# Altium footprint library HRS FPC-FFC FH12 Series.PcbLib: 48 footprints (part 3 of 3)
Each footprint in its own frame and in the unit in brackets; x right, y up, seen from the top. Pads: shape width x height; smd on the part's side, far side on the other; paste and mask are expansions set on the pad; w line width, h text height; cw(c..) or ccw(c..) is an arc to the next point about the centre after c.
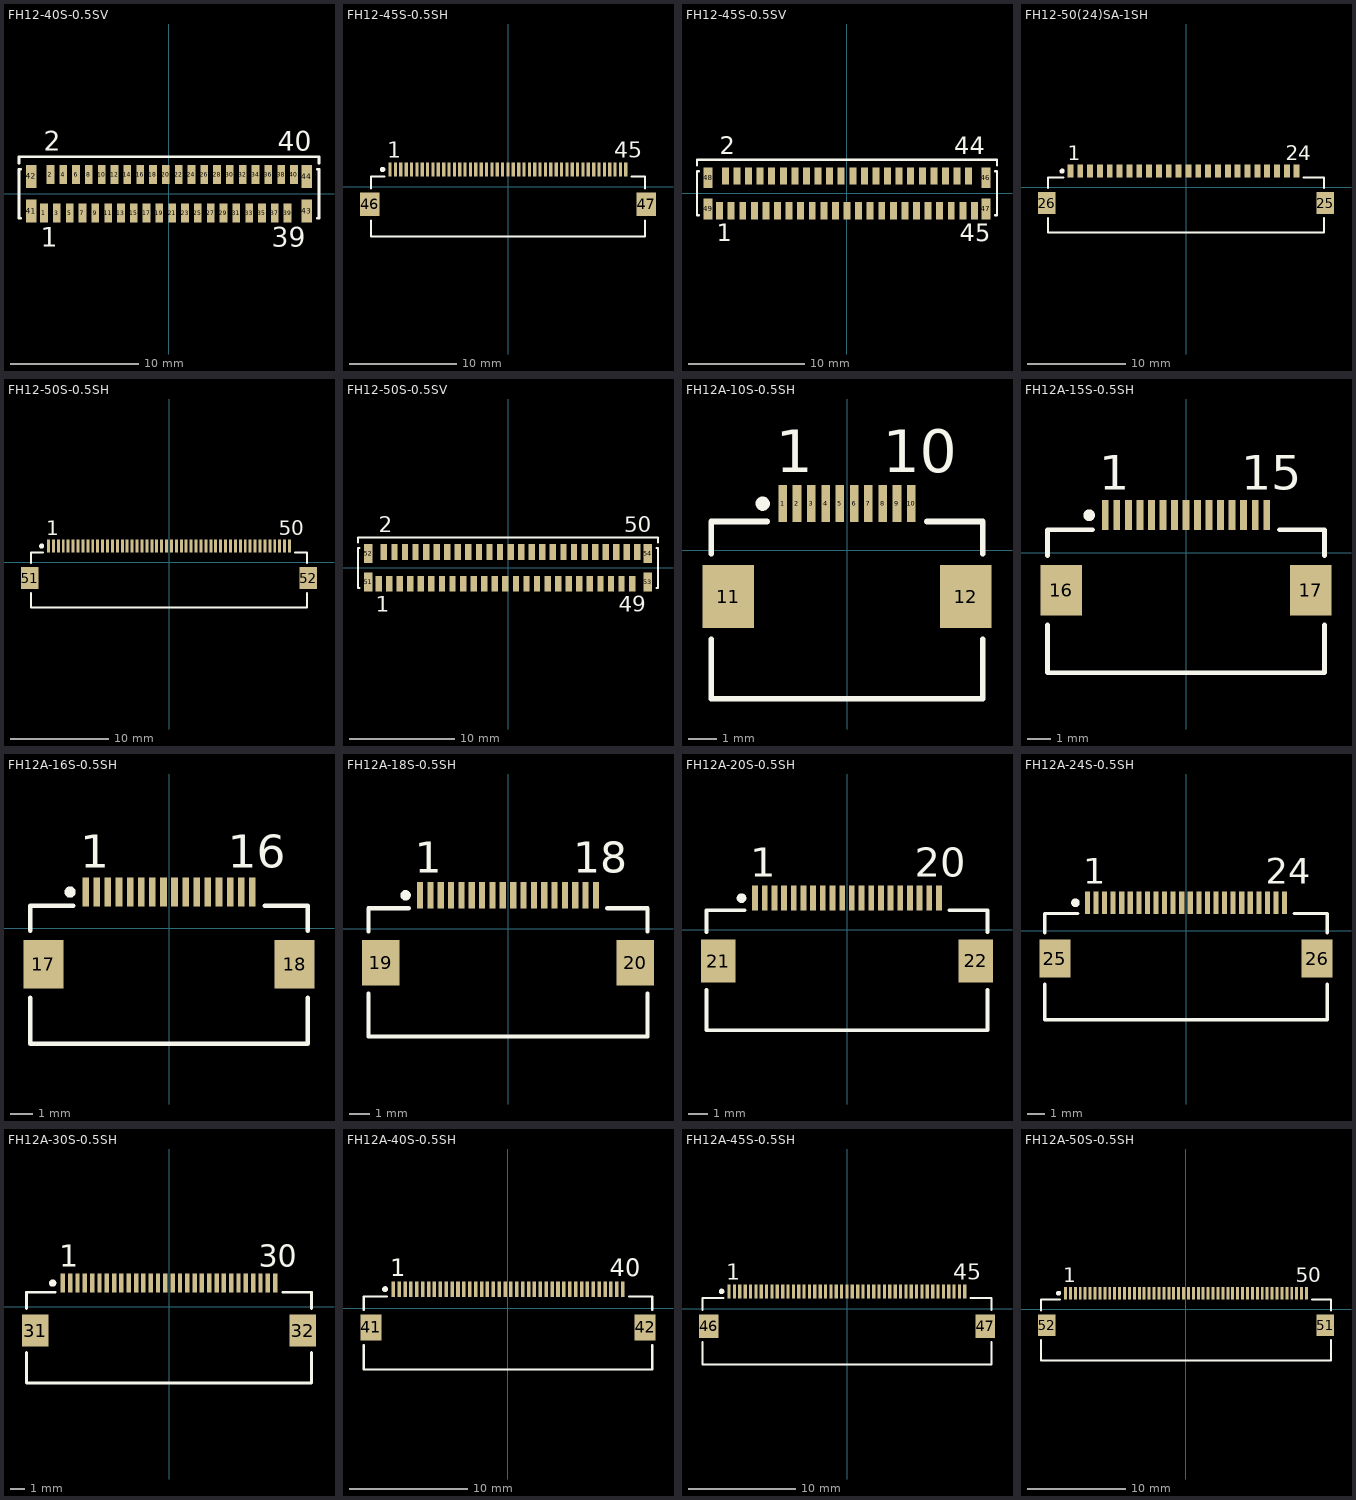
[diagram p2: the footprints below, top view; thin cyan lines are the x and y axes]

## FH12-40S-0.5SV [mm] "Connector; FH12 Series; 40 Position; 0.5mm Spaced Vertical Mounting"
height 4.85
pads (44):
  rect 0.6x1.5 smd: 1(-9.75,-1.5) 2(-9.25,1.5) 3(-8.75,-1.5) 4(-8.25,1.5) 5(-7.75,-1.5) 6(-7.25,1.5) 7(-6.75,-1.5) 8(-6.25,1.5) 9(-5.75,-1.5) 10(-5.25,1.5) 11(-4.75,-1.5) 12(-4.25,1.5) 13(-3.75,-1.5) 14(-3.25,1.5) 15(-2.75,-1.5) 16(-2.25,1.5) 17(-1.75,-1.5) 18(-1.25,1.5) 19(-0.75,-1.5) 20(-0.25,1.5) 21(0.25,-1.5) 22(0.75,1.5) 23(1.25,-1.5) 24(1.75,1.5) 25(2.25,-1.5) 26(2.75,1.5) 27(3.25,-1.5) 28(3.75,1.5) 29(4.25,-1.5) 30(4.75,1.5) 31(5.25,-1.5) 32(5.75,1.5) 33(6.25,-1.5) 34(6.75,1.5) 35(7.25,-1.5) 36(7.75,1.5) 37(8.25,-1.5) 38(8.75,1.5) 39(9.25,-1.5) 40(9.75,1.5)
  rect 0.8x1.8 smd: 41(-10.75,-1.35) 42(-10.75,1.35) 43(10.75,-1.35) 44(10.75,1.35)
Top Overlay:
  lines w0.2: -11.7,2.4 -11.7,2.9 11.7,2.9 11.7,2.4 ; -11.55,-1.9 -11.7,-1.9 -11.7,1.9 -11.55,1.9 ; 11.55,-1.9 11.7,-1.9 11.7,1.9 11.55,1.9
  text "39" at 8,-4.125 h1.5
  text "40" at 8.5,3.375 h1.5
  text "2" at -9.75,3.375 h1.5
  text "1" at -10,-4.125 h1.5

## FH12-45S-0.5SH [mm] "Connector; FH12 Series; 45 Position; 0.5mm Spaced Bottom Contact"
height 2
pads (47):
  rect 0.3x1.3 smd: 1(-11,1.625) 2(-10.5,1.625) 3(-10,1.625) 4(-9.5,1.625) 5(-9,1.625) 6(-8.5,1.625) 7(-8,1.625) 8(-7.5,1.625) 9(-7,1.625) 10(-6.5,1.625) 11(-6,1.625) 12(-5.5,1.625) 13(-5,1.625) 14(-4.5,1.625) 15(-4,1.625) 16(-3.5,1.625) 17(-3,1.625) 18(-2.5,1.625) 19(-2,1.625) 20(-1.5,1.625) 21(-1,1.625) 22(-0.5,1.625) 23(0,1.625) 24(0.5,1.625) 25(1,1.625) 26(1.5,1.625) 27(2,1.625) 28(2.5,1.625) 29(3,1.625) 30(3.5,1.625) 31(4,1.625) 32(4.5,1.625) 33(5,1.625) 34(5.5,1.625) 35(6,1.625) 36(6.5,1.625) 37(7,1.625) 38(7.5,1.625) 39(8,1.625) 40(8.5,1.625) 41(9,1.625) 42(9.5,1.625) 43(10,1.625) 44(10.5,1.625) 45(11,1.625)
  rect 1.8x2.2 smd: 46(-12.9,-1.625) 47(12.9,-1.625)
Top Overlay:
  circle w0.25: c-11.7,1.625 r0.125
  lines w0.2: -12.8,-3.125 -12.8,-4.625 12.8,-4.625 12.8,-3.125 ; -12.8,-0.125 -12.8,0.975 -11.55,0.975 ; 11.55,0.975 12.8,0.975 12.8,-0.125
  text "1" at -11.25,2.725 h1.5
  text "45" at 9.9,2.725 h1.5

## FH12-45S-0.5SV [mm] "Connector; FH12 Series; 45 Position; 0.5mm Spaced Vertical Mounting"
height 4.85
pads (49):
  rect 0.6x1.5 smd: 1(-11,-1.5) 2(-10.5,1.5) 3(-10,-1.5) 4(-9.5,1.5) 5(-9,-1.5) 6(-8.5,1.5) 7(-8,-1.5) 8(-7.5,1.5) 9(-7,-1.5) 10(-6.5,1.5) 11(-6,-1.5) 12(-5.5,1.5) 13(-5,-1.5) 14(-4.5,1.5) 15(-4,-1.5) 16(-3.5,1.5) 17(-3,-1.5) 18(-2.5,1.5) 19(-2,-1.5) 20(-1.5,1.5) 21(-1,-1.5) 22(-0.5,1.5) 23(0,-1.5) 24(0.5,1.5) 25(1,-1.5) 26(1.5,1.5) 27(2,-1.5) 28(2.5,1.5) 29(3,-1.5) 30(3.5,1.5) 31(4,-1.5) 32(4.5,1.5) 33(5,-1.5) 34(5.5,1.5) 35(6,-1.5) 36(6.5,1.5) 37(7,-1.5) 38(7.5,1.5) 39(8,-1.5) 40(8.5,1.5) 41(9,-1.5) 42(9.5,1.5) 43(10,-1.5) 44(10.5,1.5) 45(11,-1.5)
  rect 0.8x1.8 smd: 46(12,1.35) 47(12,-1.35) 48(-12,1.35) 49(-12,-1.35)
Top Overlay:
  lines w0.2: -12.95,2.4 -12.95,2.9 12.95,2.9 12.95,2.4 ; -12.8,-1.9 -12.95,-1.9 -12.95,1.9 -12.8,1.9 ; 12.8,-1.9 12.95,-1.9 12.95,1.9 12.8,1.9
  text "45" at 9.75,-4.125 h1.5
  text "44" at 9.25,3.375 h1.5
  text "1" at -11.25,-4.125 h1.5
  text "2" at -11,3.375 h1.5

## FH12-50(24)SA-1SH [mm] "Connector; FH12 Series; 24 Position; 1.0mm Spaced Bottom Eccentric Contact"
height 2
pads (26):
  rect 0.6x1.3 smd: 1(-11.75,1.625) 2(-10.75,1.625) 3(-9.75,1.625) 4(-8.75,1.625) 5(-7.75,1.625) 6(-6.75,1.625) 7(-5.75,1.625) 8(-4.75,1.625) 9(-3.75,1.625) 10(-2.75,1.625) 11(-1.75,1.625) 12(-0.75,1.625) 13(0.25,1.625) 14(1.25,1.625) 15(2.25,1.625) 16(3.25,1.625) 17(4.25,1.625) 18(5.25,1.625) 19(6.25,1.625) 20(7.25,1.625) 21(8.25,1.625) 22(9.25,1.625) 23(10.25,1.625) 24(11.25,1.625)
  rect 1.8x2.2 smd: 25(14.15,-1.625) 26(-14.15,-1.625)
Top Overlay:
  circle w0.25: c-12.6,1.625 r0.125
  lines w0.2: -14.05,-3.125 -14.05,-4.625 14.05,-4.625 14.05,-3.125 ; -14.05,-0.125 -14.05,0.975 -12.45,0.975 ; 11.95,0.975 14.05,0.975 14.05,-0.125
  text "1" at -12,2.725 h1.5
  text "24" at 10.15,2.725 h1.5

## FH12-50S-0.5SH [mm] "Connector; FH12 Series; 50 Position; 0.5mm Spaced Bottom Contact"
height 2
pads (52):
  rect 0.3x1.3 smd: 1(-12.25,1.625) 2(-11.75,1.625) 3(-11.25,1.625) 4(-10.75,1.625) 5(-10.25,1.625) 6(-9.75,1.625) 7(-9.25,1.625) 8(-8.75,1.625) 9(-8.25,1.625) 10(-7.75,1.625) 11(-7.25,1.625) 12(-6.75,1.625) 13(-6.25,1.625) 14(-5.75,1.625) 15(-5.25,1.625) 16(-4.75,1.625) 17(-4.25,1.625) 18(-3.75,1.625) 19(-3.25,1.625) 20(-2.75,1.625) 21(-2.25,1.625) 22(-1.75,1.625) 23(-1.25,1.625) 24(-0.75,1.625) 25(-0.25,1.625) 26(0.25,1.625) 27(0.75,1.625) 28(1.25,1.625) 29(1.75,1.625) 30(2.25,1.625) 31(2.75,1.625) 32(3.25,1.625) 33(3.75,1.625) 34(4.25,1.625) 35(4.75,1.625) 36(5.25,1.625) 37(5.75,1.625) 38(6.25,1.625) 39(6.75,1.625) 40(7.25,1.625) 41(7.75,1.625) 42(8.25,1.625) 43(8.75,1.625) 44(9.25,1.625) 45(9.75,1.625) 46(10.25,1.625) 47(10.75,1.625) 48(11.25,1.625) 49(11.75,1.625) 50(12.25,1.625)
  rect 1.8x2.2 smd: 51(-14.15,-1.625) 52(14.15,-1.625)
Top Overlay:
  circle w0.25: c-12.95,1.625 r0.125
  lines w0.2: -14.05,-3.125 -14.05,-4.625 14.05,-4.625 14.05,-3.125 ; -14.05,-0.125 -14.05,0.975 -12.8,0.975 ; 12.8,0.975 14.05,0.975 14.05,-0.125
  text "50" at 11.15,2.725 h1.5
  text "1" at -12.5,2.725 h1.5

## FH12-50S-0.5SV [mm] "Connector; FH12 Series; 50 Position; 0.5mm Spaced Vertical Mounting"
height 4.85
pads (54):
  rect 0.6x1.5 smd: 1(-12.25,-1.5) 2(-11.75,1.5) 3(-11.25,-1.5) 4(-10.75,1.5) 5(-10.25,-1.5) 6(-9.75,1.5) 7(-9.25,-1.5) 8(-8.75,1.5) 9(-8.25,-1.5) 10(-7.75,1.5) 11(-7.25,-1.5) 12(-6.75,1.5) 13(-6.25,-1.5) 14(-5.75,1.5) 15(-5.25,-1.5) 16(-4.75,1.5) 17(-4.25,-1.5) 18(-3.75,1.5) 19(-3.25,-1.5) 20(-2.75,1.5) 21(-2.25,-1.5) 22(-1.75,1.5) 23(-1.25,-1.5) 24(-0.75,1.5) 25(-0.25,-1.5) 26(0.25,1.5) 27(0.75,-1.5) 28(1.25,1.5) 29(1.75,-1.5) 30(2.25,1.5) 31(2.75,-1.5) 32(3.25,1.5) 33(3.75,-1.5) 34(4.25,1.5) 35(4.75,-1.5) 36(5.25,1.5) 37(5.75,-1.5) 38(6.25,1.5) 39(6.75,-1.5) 40(7.25,1.5) 41(7.75,-1.5) 42(8.25,1.5) 43(8.75,-1.5) 44(9.25,1.5) 45(9.75,-1.5) 46(10.25,1.5) 47(10.75,-1.5) 48(11.25,1.5) 49(11.75,-1.5) 50(12.25,1.5)
  rect 0.8x1.8 smd: 51(-13.25,-1.35) 52(-13.25,1.35) 53(13.25,-1.35) 54(13.25,1.35)
Top Overlay:
  lines w0.2: -14.2,2.4 -14.2,2.9 14.2,2.9 14.2,2.4 ; -14.05,-1.9 -14.2,-1.9 -14.2,1.9 -14.05,1.9 ; 14.05,-1.9 14.2,-1.9 14.2,1.9 14.05,1.9
  text "1" at -12.5,-4.125 h1.5
  text "2" at -12.25,3.375 h1.5
  text "49" at 10.5,-4.125 h1.5
  text "50" at 11,3.375 h1.5

## FH12A-10S-0.5SH [mm] "Connector; FH12 Series; 10 Position; 0.5mm Spaced Top Contact"
height 2
pads (12):
  rect 0.3x1.3 smd: 1(-2.25,1.625) 2(-1.75,1.625) 3(-1.25,1.625) 4(-0.75,1.625) 5(-0.25,1.625) 6(0.25,1.625) 7(0.75,1.625) 8(1.25,1.625) 9(1.75,1.625) 10(2.25,1.625)
  rect 1.8x2.2 smd: 11(-4.15,-1.625) 12(4.15,-1.625)
Top Overlay:
  circle w0.25: c-2.95,1.625 r0.125
  lines w0.2: -4.75,-3.125 -4.75,-5.2 4.75,-5.2 4.75,-3.125 ; -4.75,-0.125 -4.75,1 -2.8,1 ; 2.8,1 4.75,1 4.75,-0.125
  text "1" at -2.5,2.725 h1.5
  text "10" at 1.25,2.725 h1.5

## FH12A-15S-0.5SH [mm] "Connector; FH12 Series; 15 Position; 0.5mm Spaced Top Contact"
height 2
pads (17):
  rect 0.3x1.3 smd: 1(-3.5,1.625) 2(-3,1.625) 3(-2.5,1.625) 4(-2,1.625) 5(-1.5,1.625) 6(-1,1.625) 7(-0.5,1.625) 8(0,1.625) 9(0.5,1.625) 10(1,1.625) 11(1.5,1.625) 12(2,1.625) 13(2.5,1.625) 14(3,1.625) 15(3.5,1.625)
  rect 1.8x2.2 smd: 16(-5.4,-1.625) 17(5.4,-1.625)
Top Overlay:
  circle w0.25: c-4.2,1.625 r0.125
  lines w0.2: -6,-3.125 -6,-5.2 6,-5.2 6,-3.125 ; -6,-0.125 -6,1 -4.05,1 ; 4.05,1 6,1 6,-0.125
  text "1" at -3.75,2.725 h1.5
  text "15" at 2.4,2.725 h1.5

## FH12A-16S-0.5SH [mm] "Connector; FH12 Series; 16 Position; 0.5mm Spaced Top Contact"
height 2
pads (18):
  rect 0.3x1.3 smd: 1(-3.75,1.625) 2(-3.25,1.625) 3(-2.75,1.625) 4(-2.25,1.625) 5(-1.75,1.625) 6(-1.25,1.625) 7(-0.75,1.625) 8(-0.25,1.625) 9(0.25,1.625) 10(0.75,1.625) 11(1.25,1.625) 12(1.75,1.625) 13(2.25,1.625) 14(2.75,1.625) 15(3.25,1.625) 16(3.75,1.625)
  rect 1.8x2.2 smd: 17(-5.65,-1.625) 18(5.65,-1.625)
Top Overlay:
  circle w0.25: c-4.45,1.625 r0.125
  lines w0.2: -6.25,-3.125 -6.25,-5.2 6.25,-5.2 6.25,-3.125 ; -6.25,-0.125 -6.25,1 -4.3,1 ; 4.3,1 6.25,1 6.25,-0.125
  text "16" at 2.65,2.725 h1.5
  text "1" at -4,2.725 h1.5

## FH12A-18S-0.5SH [mm] "Connector; FH12 Series; 18 Position; 0.5mm Spaced Top Contact"
height 2
pads (20):
  rect 0.3x1.3 smd: 1(-4.25,1.625) 2(-3.75,1.625) 3(-3.25,1.625) 4(-2.75,1.625) 5(-2.25,1.625) 6(-1.75,1.625) 7(-1.25,1.625) 8(-0.75,1.625) 9(-0.25,1.625) 10(0.25,1.625) 11(0.75,1.625) 12(1.25,1.625) 13(1.75,1.625) 14(2.25,1.625) 15(2.75,1.625) 16(3.25,1.625) 17(3.75,1.625) 18(4.25,1.625)
  rect 1.8x2.2 smd: 19(-6.15,-1.625) 20(6.15,-1.625)
Top Overlay:
  circle w0.25: c-4.95,1.625 r0.125
  lines w0.2: -6.75,-3.125 -6.75,-5.2 6.75,-5.2 6.75,-3.125 ; -6.75,-0.125 -6.75,1 -4.8,1 ; 4.8,1 6.75,1 6.75,-0.125
  text "1" at -4.5,2.725 h1.5
  text "18" at 3.15,2.725 h1.5

## FH12A-20S-0.5SH [mm] "Connector; FH12 Series; 20 Position; 0.5mm Spaced Top Contact"
height 2
pads (22):
  rect 0.3x1.3 smd: 1(-4.75,1.625) 2(-4.25,1.625) 3(-3.75,1.625) 4(-3.25,1.625) 5(-2.75,1.625) 6(-2.25,1.625) 7(-1.75,1.625) 8(-1.25,1.625) 9(-0.75,1.625) 10(-0.25,1.625) 11(0.25,1.625) 12(0.75,1.625) 13(1.25,1.625) 14(1.75,1.625) 15(2.25,1.625) 16(2.75,1.625) 17(3.25,1.625) 18(3.75,1.625) 19(4.25,1.625) 20(4.75,1.625)
  rect 1.8x2.2 smd: 21(-6.65,-1.625) 22(6.65,-1.623)
Top Overlay:
  circle w0.25: c-5.45,1.625 r0.125
  lines w0.2: -7.25,-3.123 -7.25,-5.198 7.25,-5.198 7.25,-3.123 ; -7.25,-0.123 -7.25,1.002 -5.3,1.002 ; 5.3,1.002 7.25,1.002 7.25,-0.123
  text "20" at 3.5,2.725 h1.5
  text "1" at -5,2.725 h1.5

## FH12A-24S-0.5SH [mm] "Connector; FH12 Series; 24 Position; 0.5mm Spaced Top Contact"
height 2
pads (26):
  rect 0.3x1.3 smd: 1(-5.75,1.625) 2(-5.25,1.625) 3(-4.75,1.625) 4(-4.25,1.625) 5(-3.75,1.625) 6(-3.25,1.625) 7(-2.75,1.625) 8(-2.25,1.625) 9(-1.75,1.625) 10(-1.25,1.625) 11(-0.75,1.625) 12(-0.25,1.625) 13(0.25,1.625) 14(0.75,1.625) 15(1.25,1.625) 16(1.75,1.625) 17(2.25,1.625) 18(2.75,1.625) 19(3.25,1.625) 20(3.75,1.625) 21(4.25,1.625) 22(4.75,1.625) 23(5.25,1.625) 24(5.75,1.625)
  rect 1.8x2.2 smd: 25(-7.65,-1.625) 26(7.65,-1.625)
Top Overlay:
  circle w0.25: c-6.45,1.625 r0.125
  lines w0.2: -8.25,-3.125 -8.25,-5.2 8.25,-5.2 8.25,-3.125 ; -8.25,-0.125 -8.25,1 -6.3,1 ; 6.3,1 8.25,1 8.25,-0.125
  text "24" at 4.65,2.725 h1.5
  text "1" at -6,2.725 h1.5

## FH12A-30S-0.5SH [mm] "Connector; FH12 Series; 30 Position; 0.5mm Spaced Top Contact"
height 2
pads (32):
  rect 0.3x1.3 smd: 1(-7.25,1.625) 2(-6.75,1.625) 3(-6.25,1.625) 4(-5.75,1.625) 5(-5.25,1.625) 6(-4.75,1.625) 7(-4.25,1.625) 8(-3.75,1.625) 9(-3.25,1.625) 10(-2.75,1.625) 11(-2.25,1.625) 12(-1.75,1.625) 13(-1.25,1.625) 14(-0.75,1.625) 15(-0.25,1.625) 16(0.25,1.625) 17(0.75,1.625) 18(1.25,1.625) 19(1.75,1.625) 20(2.25,1.625) 21(2.75,1.625) 22(3.25,1.625) 23(3.75,1.625) 24(4.25,1.625) 25(4.75,1.625) 26(5.25,1.625) 27(5.75,1.625) 28(6.25,1.625) 29(6.75,1.625) 30(7.25,1.625)
  rect 1.8x2.2 smd: 31(-9.15,-1.625) 32(9.15,-1.625)
Top Overlay:
  circle w0.25: c-7.95,1.625 r0.125
  lines w0.2: -9.75,-3.125 -9.75,-5.2 9.75,-5.2 9.75,-3.125 ; -9.75,-0.125 -9.75,1 -7.8,1 ; 7.8,1 9.75,1 9.75,-0.125
  text "1" at -7.5,2.725 h1.5
  text "30" at 6.15,2.725 h1.5

## FH12A-40S-0.5SH [mm] "Connector; FH12 Series; 40 Position; 0.5mm Spaced Top Contact"
height 2
pads (42):
  rect 0.3x1.3 smd: 1(-9.75,1.625) 2(-9.25,1.625) 3(-8.75,1.625) 4(-8.25,1.625) 5(-7.75,1.625) 6(-7.25,1.625) 7(-6.75,1.625) 8(-6.25,1.625) 9(-5.75,1.625) 10(-5.25,1.625) 11(-4.75,1.625) 12(-4.25,1.625) 13(-3.75,1.625) 14(-3.25,1.625) 15(-2.75,1.625) 16(-2.25,1.625) 17(-1.75,1.625) 18(-1.25,1.625) 19(-0.75,1.625) 20(-0.25,1.625) 21(0.25,1.625) 22(0.75,1.625) 23(1.25,1.625) 24(1.75,1.625) 25(2.25,1.625) 26(2.75,1.625) 27(3.25,1.625) 28(3.75,1.625) 29(4.25,1.625) 30(4.75,1.625) 31(5.25,1.625) 32(5.75,1.625) 33(6.25,1.625) 34(6.75,1.625) 35(7.25,1.625) 36(7.75,1.625) 37(8.25,1.625) 38(8.75,1.625) 39(9.25,1.625) 40(9.75,1.625)
  rect 1.8x2.2 smd: 41(-11.65,-1.625) 42(11.65,-1.625)
Top Overlay:
  circle w0.25: c-10.45,1.625 r0.125
  lines w0.2: -12.25,-3.125 -12.25,-5.2 12.25,-5.2 12.25,-3.125 ; -12.25,-0.125 -12.25,1 -10.3,1 ; 10.3,1 12.25,1 12.25,-0.125
  text "40" at 8.65,2.725 h1.5
  text "1" at -10,2.725 h1.5

## FH12A-45S-0.5SH [mm] "Connector; FH12 Series; 45 Position; 0.5mm Spaced Top Contact"
height 2
pads (47):
  rect 0.3x1.3 smd: 1(-11,1.625) 2(-10.5,1.625) 3(-10,1.625) 4(-9.5,1.625) 5(-9,1.625) 6(-8.5,1.625) 7(-8,1.625) 8(-7.5,1.625) 9(-7,1.625) 10(-6.5,1.625) 11(-6,1.625) 12(-5.5,1.625) 13(-5,1.625) 14(-4.5,1.625) 15(-4,1.625) 16(-3.5,1.625) 17(-3,1.625) 18(-2.5,1.625) 19(-2,1.625) 20(-1.5,1.625) 21(-1,1.625) 22(-0.5,1.625) 23(0,1.625) 24(0.5,1.625) 25(1,1.625) 26(1.5,1.625) 27(2,1.625) 28(2.5,1.625) 29(3,1.625) 30(3.5,1.625) 31(4,1.625) 32(4.5,1.625) 33(5,1.625) 34(5.5,1.625) 35(6,1.625) 36(6.5,1.625) 37(7,1.625) 38(7.5,1.625) 39(8,1.625) 40(8.5,1.625) 41(9,1.625) 42(9.5,1.625) 43(10,1.625) 44(10.5,1.625) 45(11,1.625)
  rect 1.8x2.2 smd: 46(-12.9,-1.625) 47(12.9,-1.625)
Top Overlay:
  circle w0.25: c-11.7,1.625 r0.125
  lines w0.2: -13.5,-3.125 -13.5,-5.2 13.5,-5.2 13.5,-3.125 ; -13.5,-0.125 -13.5,1 -11.55,1 ; 11.55,1 13.5,1 13.5,-0.125
  text "45" at 9.9,2.725 h1.5
  text "1" at -11.25,2.725 h1.5

## FH12A-50S-0.5SH [mm] "Connector; FH12 Series; 50 Position; 0.5mm Spaced Top Contact"
height 2
pads (52):
  rect 0.3x1.3 smd: 1(-12.25,1.625) 2(-11.75,1.625) 3(-11.25,1.625) 4(-10.75,1.625) 5(-10.25,1.625) 6(-9.75,1.625) 7(-9.25,1.625) 8(-8.75,1.625) 9(-8.25,1.625) 10(-7.75,1.625) 11(-7.25,1.625) 12(-6.75,1.625) 13(-6.25,1.625) 14(-5.75,1.625) 15(-5.25,1.625) 16(-4.75,1.625) 17(-4.25,1.625) 18(-3.75,1.625) 19(-3.25,1.625) 20(-2.75,1.625) 21(-2.25,1.625) 22(-1.75,1.625) 23(-1.25,1.625) 24(-0.75,1.625) 25(-0.25,1.625) 26(0.25,1.625) 27(0.75,1.625) 28(1.25,1.625) 29(1.75,1.625) 30(2.25,1.625) 31(2.75,1.625) 32(3.25,1.625) 33(3.75,1.625) 34(4.25,1.625) 35(4.75,1.625) 36(5.25,1.625) 37(5.75,1.625) 38(6.25,1.625) 39(6.75,1.625) 40(7.25,1.625) 41(7.75,1.625) 42(8.25,1.625) 43(8.75,1.625) 44(9.25,1.625) 45(9.75,1.625) 46(10.25,1.625) 47(10.75,1.625) 48(11.25,1.625) 49(11.75,1.625) 50(12.25,1.625)
  rect 1.8x2.2 smd: 51(14.15,-1.625) 52(-14.15,-1.625)
Top Overlay:
  circle w0.25: c-12.95,1.625 r0.125
  lines w0.2: -14.75,-3.125 -14.75,-5.2 14.75,-5.2 14.75,-3.125 ; -14.75,-0.125 -14.75,1 -12.8,1 ; 12.8,1 14.75,1 14.75,-0.125
  text "50" at 11.15,2.725 h1.5
  text "1" at -12.5,2.725 h1.5